# Altium integrated library CR0402-FX-1003GLF.IntLib: 1 symbol
Pins are listed as number, name and electrical type; pins without a type are passive.

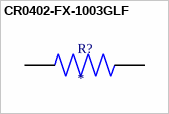
[diagram p0: symbol CR0402-FX-1003GLF]

## CR0402-FX-1003GLF
designator R?
Res 0402 100k %1 63mW | Bourns CR0402-FX-1003GLF; SnapEDA_Link: https://www.snapeda.com/parts/CR0402-FX-1003GLF/Bourns/view-part/?ref=snap; Package: 0402-2 Bourns; Value: *; MF: Bourns; MP: CR0402-FX-1003GLF; Check_prices: https://www.snapeda.com/parts/CR0402-FX-1003GLF/Bourns/view-part/?ref=eda
footprint RESC1005X40N
pins: 1, 2